# Altium footprint library 2450BM15A0002.PcbLib: 1 footprints
Each footprint in its own frame and in the unit in brackets; x right, y up, seen from the top. Pads: shape width x height; smd on the part's side, far side on the other; paste and mask are expansions set on the pad; w line width, h text height; cw(c..) or ccw(c..) is an arc to the next point about the centre after c.
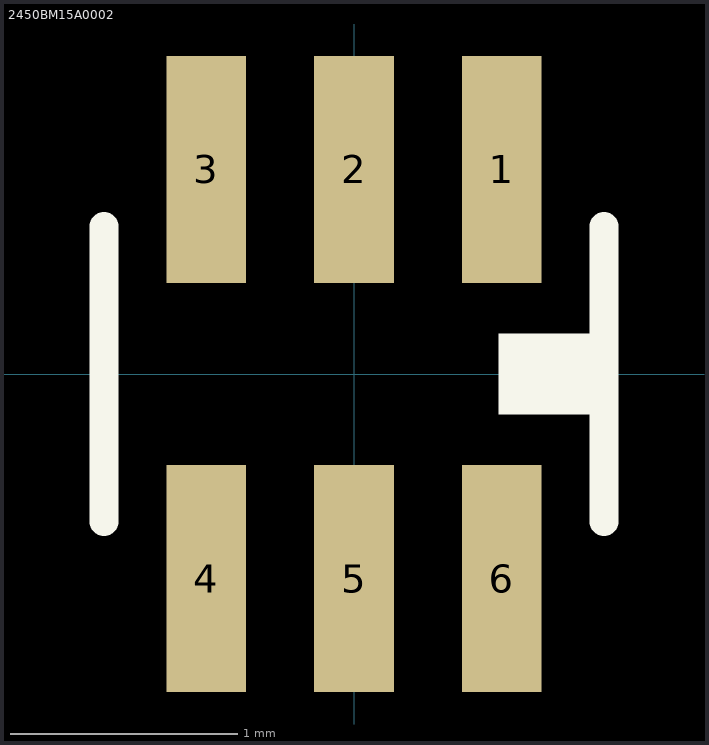
[diagram p0: the footprint, top view; thin cyan lines are the x and y axes]

## 2450BM15A0002 [mm]
pads (6):
  rect 0.35x1 smd: 1(0.65,0.9) 2(0,0.9) 3(-0.65,0.9) 4(-0.65,-0.9) 5(0,-0.9) 6(0.65,-0.9)
Top Overlay:
  rectangle: 0.635,-0.178 1.092,0.178
  lines w0.127: -1.1,-0.65 -1.1,0.65 ; 1.1,-0.65 1.1,0.65
3D body: height 0.8, standoff 0, extent -0.991,-0.625 1.009,0.625